# EAGLE library part CHIPDESIGN_UC (library chipdesign2016)
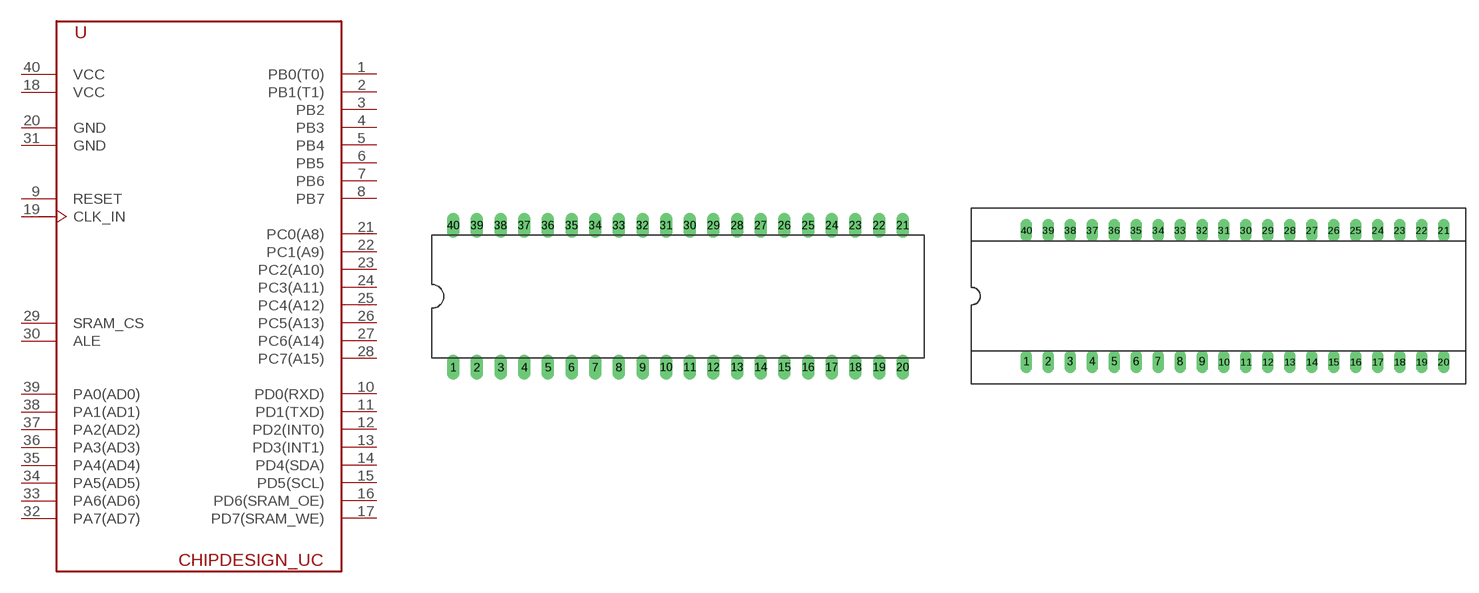
[diagram p0: symbol with the pads of DIL40; footprints DIL40, SOCKET-40]

Designator prefix -

## CHIPDESIGN_UCSOLDER  [DIL40]
1  PB0(T0)
2  PB1(T1)
3  PB2
4  PB3
5  PB4
6  PB5
7  PB6
8  PB7
9  RESET  in
10  PD0(RXD)
11  PD1(TXD)
12  PD2(INT0)
13  PD3(INT1)
14  PD4(SDA)
15  PD5(SCL)
16  PD6(SRAM_OE)
17  PD7(SRAM_WE)
18  VCC  pwr
19  CLK_IN  in
20  GND  pwr
21  PC0(A8)
22  PC1(A9)
23  PC2(A10)
24  PC3(A11)
25  PC4(A12)
26  PC5(A13)
27  PC6(A14)
28  PC7(A15)
29  SRAM_CS
30  ALE
31  GND  pwr
32  PA7(AD7)
33  PA6(AD6)
34  PA5(AD5)
35  PA4(AD4)
36  PA3(AD3)
37  PA2(AD2)
38  PA1(AD1)
39  PA0(AD0)
40  VCC  pwr

## CHIPDESIGN_UCSOCKET  [SOCKET-40]
Pads as for DIL40

## CHIPDESIGN_UCZIF-SOCKET  [240-1280-00-0602J]
Pads as for DIL40

## CHIPDESIGN_UC  [FPGA-BOARD-2X20]
Pads as for DIL40

## Footprint DIL40 (pad centres in mm)
Dual In Line
drill 0.813 long: 1 -24.13,-7.62; 2 -21.59,-7.62; 3 -19.05,-7.62; 4 -16.51,-7.62; 5 -13.97,-7.62; 6 -11.43,-7.62; 7 -8.89,-7.62; 8 -6.35,-7.62; 9 -3.81,-7.62; 10 -1.27,-7.62; 11 1.27,-7.62; 12 3.81,-7.62; 13 6.35,-7.62; 14 8.89,-7.62; 15 11.43,-7.62; 16 13.97,-7.62; 17 16.51,-7.62; 18 19.05,-7.62; 19 21.59,-7.62; 20 24.13,-7.62; 21 24.13,7.62; 22 21.59,7.62; 23 19.05,7.62; 24 16.51,7.62; 25 13.97,7.62; 26 11.43,7.62; 27 8.89,7.62; 28 6.35,7.62; 29 3.81,7.62; 30 1.27,7.62; 31 -1.27,7.62; 32 -3.81,7.62; 33 -6.35,7.62; 34 -8.89,7.62; 35 -11.43,7.62; 36 -13.97,7.62; 37 -16.51,7.62; 38 -19.05,7.62; 39 -21.59,7.62; 40 -24.13,7.62

## Footprint SOCKET-40 (pad centres in mm)
Dual In Line Socked
drill 0.813 long: 1 -24.13,-7.62; 2 -21.59,-7.62; 3 -19.05,-7.62; 4 -16.51,-7.62; 5 -13.97,-7.62; 6 -11.43,-7.62; 7 -8.89,-7.62; 8 -6.35,-7.62; 9 -3.81,-7.62; 10 -1.27,-7.62; 11 1.27,-7.62; 12 3.81,-7.62; 13 6.35,-7.62; 14 8.89,-7.62; 15 11.43,-7.62; 16 13.97,-7.62; 17 16.51,-7.62; 18 19.05,-7.62; 19 21.59,-7.62; 20 24.13,-7.62; 21 24.13,7.62; 22 21.59,7.62; 23 19.05,7.62; 24 16.51,7.62; 25 13.97,7.62; 26 11.43,7.62; 27 8.89,7.62; 28 6.35,7.62; 29 3.81,7.62; 30 1.27,7.62; 31 -1.27,7.62; 32 -3.81,7.62; 33 -6.35,7.62; 34 -8.89,7.62; 35 -11.43,7.62; 36 -13.97,7.62; 37 -16.51,7.62; 38 -19.05,7.62; 39 -21.59,7.62; 40 -24.13,7.62

## Footprint 240-1280-00-0602J (pad centres in mm)
3M TEXTOOL 40 pol. DIP Lever actuated zero insertion force mechanism Hersteller: 3M TEXTOOL Herstellerbez.: 240-1280-00-0602J Farnell Best.-Nr.: 4665466 Source: http://www.3M.com/ehpd
drill 0.9 long: 1 -24.13,-7.62; 2 -21.59,-7.62; 3 -19.05,-7.62; 4 -16.51,-7.62; 5 -13.97,-7.62; 6 -11.43,-7.62; 7 -8.89,-7.62; 8 -6.35,-7.62; 9 -3.81,-7.62; 10 -1.27,-7.62; 11 1.27,-7.62; 12 3.81,-7.62; 13 6.35,-7.62; 14 8.89,-7.62; 15 11.43,-7.62; 16 13.97,-7.62; 17 16.51,-7.62; 18 19.05,-7.62; 19 21.59,-7.62; 20 24.13,-7.62; 21 24.13,7.62; 22 21.59,7.62; 23 19.05,7.62; 24 16.51,7.62; 25 13.97,7.62; 26 11.43,7.62; 27 8.89,7.62; 28 6.35,7.62; 29 3.81,7.62; 30 1.27,7.62; 31 -1.27,7.62; 32 -3.81,7.62; 33 -6.35,7.62; 34 -8.89,7.62; 35 -11.43,7.62; 36 -13.97,7.62; 37 -16.51,7.62; 38 -19.05,7.62; 39 -21.59,7.62; 40 -24.13,7.62
hole 2 at 28.86,0
hole 2 at -32.36,0

## Footprint FPGA-BOARD-2X20 (pad centres in mm)
PIN HEADER
drill 1.016 octagon: 1 -25.4,-22.86; 2 -22.86,-22.86; 3 -20.32,-22.86; 4 -17.78,-22.86; 5 -15.24,-22.86; 6 -12.7,-22.86; 7 -10.16,-22.86; 8 -7.62,-22.86; 9 -5.08,-22.86; 10 -2.54,-22.86; 11 0,-22.86; 12 2.54,-22.86; 13 5.08,-22.86; 14 7.62,-22.86; 15 10.16,-22.86; 16 12.7,-22.86; 17 15.24,-22.86; 18 17.78,-22.86; 19 20.32,-22.86; 20 22.86,-22.86; 21 22.86,22.86; 22 20.32,22.86; 23 17.78,22.86; 24 15.24,22.86; 25 12.7,22.86; 26 10.16,22.86; 27 7.62,22.86; 28 5.08,22.86; 29 2.54,22.86; 30 0,22.86; 31 -2.54,22.86; 32 -5.08,22.86; 33 -7.62,22.86; 34 -10.16,22.86; 35 -12.7,22.86; 36 -15.24,22.86; 37 -17.78,22.86; 38 -20.32,22.86; 39 -22.86,22.86; 40 -25.4,22.86